# EAGLE library part ATTINY841-BOARD (library adapterboards)
Adapterplatine fuer Mikrocontroller Attiny841
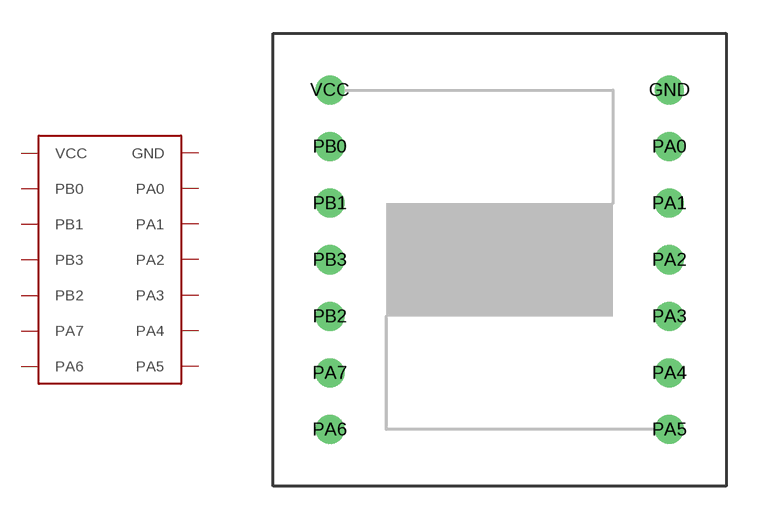
[diagram p1: symbol with the pads of ADAPT-ATTINY841; footprint ADAPT-ATTINY841]

Designator prefix -

## ATTINY841-BOARD  [ADAPT-ATTINY841]
GND  GND
PA0  PA0
PA1  PA1
PA2  PA2
PA3  PA3
PA4  PA4
PA5  PA5
PA6  PA6
PA7  PA7
PB0  PB0
PB1  PB1
PB2  PB2
PB3  PB3
VCC  VCC

## Footprint ADAPT-ATTINY841 (pad centres in mm)
drill 0.8: GND 15.24,0; PA0 15.24,-2.54; PA1 15.24,-5.08; PA2 15.24,-7.62; PA3 15.24,-10.16; PA4 15.24,-12.7; PA5 15.24,-15.24; PA6 0,-15.24; PA7 0,-12.7; PB0 0,-2.54; PB1 0,-5.08; PB2 0,-10.16; PB3 0,-7.62; VCC 0,0